# EAGLE library part CPCI_B19- (library con-cpci)
Compact PCI B 19 Source: www.erni.com
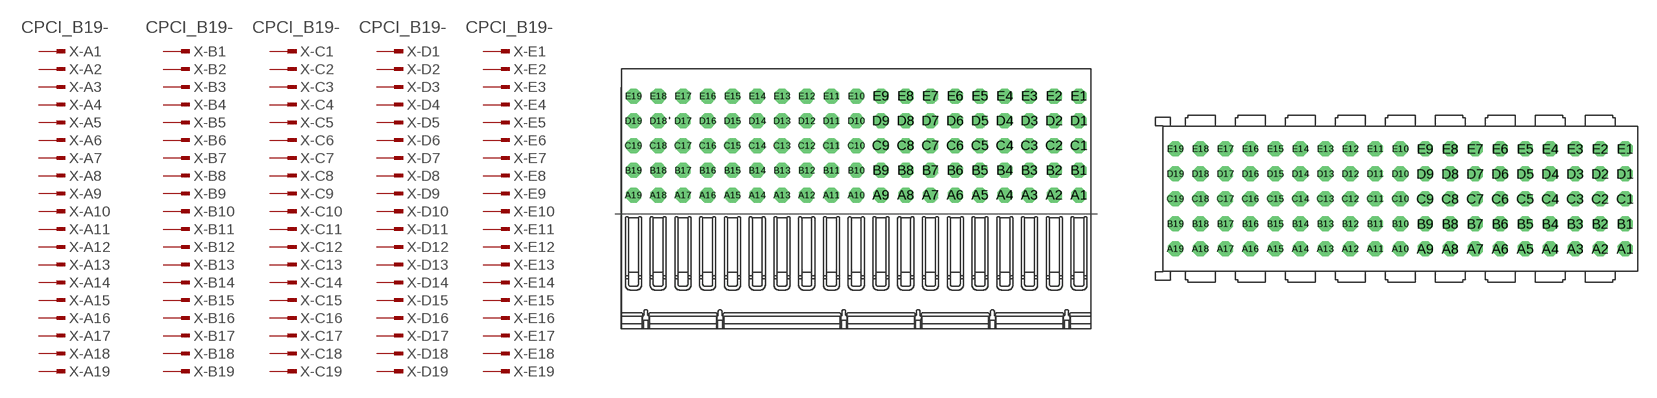
[diagram p3: symbol with the pads of 064784; footprints 064784, 114133]

Designator prefix X; gates -A1=PINV -B1=PINV -C1=PINV -D1=PINV -E1=PINV -A2=PIN -A3=PIN -A4=PIN -A5=PIN -A6=PIN -A7=PIN -A8=PIN -A9=PIN -A10=PIN -A11=PIN -A12=PIN -A13=PIN -A14=PIN -A15=PIN -A16=PIN -A17=PIN -A18=PIN -A19=PIN -B2=PIN -B3=PIN -B4=PIN -B5=PIN -B6=PIN -B7=PIN -B8=PIN -B9=PIN -B10=PIN -B11=PIN -B12=PIN -B13=PIN -B14=PIN -B15=PIN -B16=PIN -B17=PIN -B18=PIN -B19=PIN -C2=PIN -C3=PIN -C4=PIN -C5=PIN -C6=PIN -C7=PIN -C8=PIN -C9=PIN -C10=PIN -C11=PIN -C12=PIN -C13=PIN -C14=PIN -C15=PIN -C16=PIN -C17=PIN -C18=PIN -C19=PIN -D2=PIN -D3=PIN -D4=PIN -D5=PIN -D6=PIN -D7=PIN -D8=PIN -D9=PIN -D10=PIN -D11=PIN -D12=PIN -D13=PIN -D14=PIN -D15=PIN -D16=PIN -D17=PIN -D18=PIN -D19=PIN -E2=PIN -E3=PIN -E4=PIN -E5=PIN -E6=PIN -E7=PIN -E8=PIN -E9=PIN -E10=PIN -E11=PIN -E12=PIN -E13=PIN -E14=PIN -E15=PIN -E16=PIN -E17=PIN -E18=PIN -E19=PIN

## CPCI_B19-064784  [064784]
A1  -A1:1  in
A2  -A2:1  in
A3  -A3:1  in
A4  -A4:1  in
A5  -A5:1  in
A6  -A6:1  in
A7  -A7:1  in
A8  -A8:1  in
A9  -A9:1  in
A10  -A10:1  in
A11  -A11:1  in
A12  -A12:1  in
A13  -A13:1  in
A14  -A14:1  in
A15  -A15:1  in
A16  -A16:1  in
A17  -A17:1  in
A18  -A18:1  in
A19  -A19:1  in
B1  -B1:1  in
B2  -B2:1  in
B3  -B3:1  in
B4  -B4:1  in
B5  -B5:1  in
B6  -B6:1  in
B7  -B7:1  in
B8  -B8:1  in
B9  -B9:1  in
B10  -B10:1  in
B11  -B11:1  in
B12  -B12:1  in
B13  -B13:1  in
B14  -B14:1  in
B15  -B15:1  in
B16  -B16:1  in
B17  -B17:1  in
B18  -B18:1  in
B19  -B19:1  in
C1  -C1:1  in
C2  -C2:1  in
C3  -C3:1  in
C4  -C4:1  in
C5  -C5:1  in
C6  -C6:1  in
C7  -C7:1  in
C8  -C8:1  in
C9  -C9:1  in
C10  -C10:1  in
C11  -C11:1  in
C12  -C12:1  in
C13  -C13:1  in
C14  -C14:1  in
C15  -C15:1  in
C16  -C16:1  in
C17  -C17:1  in
C18  -C18:1  in
C19  -C19:1  in
D1  -D1:1  in
D2  -D2:1  in
D3  -D3:1  in
D4  -D4:1  in
D5  -D5:1  in
D6  -D6:1  in
D7  -D7:1  in
D8  -D8:1  in
D9  -D9:1  in
D10  -D10:1  in
D11  -D11:1  in
D12  -D12:1  in
D13  -D13:1  in
D14  -D14:1  in
D15  -D15:1  in
D16  -D16:1  in
D17  -D17:1  in
D18  -D18:1  in
D19  -D19:1  in
E1  -E1:1  in
E2  -E2:1  in
E3  -E3:1  in
E4  -E4:1  in
E5  -E5:1  in
E6  -E6:1  in
E7  -E7:1  in
E8  -E8:1  in
E9  -E9:1  in
E10  -E10:1  in
E11  -E11:1  in
E12  -E12:1  in
E13  -E13:1  in
E14  -E14:1  in
E15  -E15:1  in
E16  -E16:1  in
E17  -E17:1  in
E18  -E18:1  in
E19  -E19:1  in

## CPCI_B19-114133  [114133]
Pads as for 064784

## CPCI_B19-914794  [914794]
Pads as for 064784

## Footprint 064784 (pad centres in mm)
ERmet Federleiste B 19 / ERmet Female Type B 19 Source: http://www.erni.com/DB/PDF-Drawing/ERmet/064784.pdf
drill 0.7 pad 1.016 octagon: A1 18,1.5; A2 16,1.5; A3 14,1.5; A4 12,1.5; A5 10,1.5; A6 8,1.5; A7 6,1.5; A8 4,1.5; A9 2,1.5; A10 0,1.5; A11 -2,1.5; A12 -4,1.5; A13 -6,1.5; A14 -8,1.5; A15 -10,1.5; A16 -12,1.5; A17 -14,1.5; A18 -16,1.5; A19 -18,1.5; B1 18,3.5; B2 16,3.5; B3 14,3.5; B4 12,3.5; B5 10,3.5; B6 8,3.5; B7 6,3.5; B8 4,3.5; B9 2,3.5; B10 0,3.5; B11 -2,3.5; B12 -4,3.5; B13 -6,3.5; B14 -8,3.5; B15 -10,3.5; B16 -12,3.5; B17 -14,3.5; B18 -16,3.5; B19 -18,3.5; C1 18,5.5; C2 16,5.5; C3 14,5.5; C4 12,5.5; C5 10,5.5; C6 8,5.5; C7 6,5.5; C8 4,5.5; C9 2,5.5; C10 0,5.5; C11 -2,5.5; C12 -4,5.5; C13 -6,5.5; C14 -8,5.5; C15 -10,5.5; C16 -12,5.5; C17 -14,5.5; C18 -16,5.5; C19 -18,5.5; D1 18,7.5; D2 16,7.5; D3 14,7.5; D4 12,7.5; D5 10,7.5; D6 8,7.5; D7 6,7.5; D8 4,7.5; D9 2,7.5; D10 0,7.5; D11 -2,7.5; D12 -4,7.5; D13 -6,7.5; D14 -8,7.5; D15 -10,7.5; D16 -12,7.5; D17 -14,7.5; D18 -16,7.5; D19 -18,7.5; E1 18,9.5; E2 16,9.5; E3 14,9.5; E4 12,9.5; E5 10,9.5; E6 8,9.5; E7 6,9.5; E8 4,9.5; E9 2,9.5; E10 0,9.5; E11 -2,9.5; E12 -4,9.5; E13 -6,9.5; E14 -8,9.5; E15 -10,9.5; E16 -12,9.5; E17 -14,9.5; E18 -16,9.5; E19 -18,9.5

## Footprint 114133 (pad centres in mm)
ERmet-FS Federleiste B19 / ERmet-Female Straight Type B19 Source: http://www.erni.com/DB/PDF-Drawing/ERmet/114133.pdf
drill 0.7 pad 1.016 octagon: A1 18,-5; A2 16,-5; A3 14,-5; A4 12,-5; A5 10,-5; A6 8,-5; A7 6,-5; A8 4,-5; A9 2,-5; A10 0,-5; A11 -2,-5; A12 -4,-5; A13 -6,-5; A14 -8,-5; A15 -10,-5; A16 -12,-5; A17 -14,-5; A18 -16,-5; A19 -18,-5; B1 18,-3; B2 16,-3; B3 14,-3; B4 12,-3; B5 10,-3; B6 8,-3; B7 6,-3; B8 4,-3; B9 2,-3; B10 0,-3; B11 -2,-3; B12 -4,-3; B13 -6,-3; B14 -8,-3; B15 -10,-3; B16 -12,-3; B17 -14,-3; B18 -16,-3; B19 -18,-3; C1 18,-1; C2 16,-1; C3 14,-1; C4 12,-1; C5 10,-1; C6 8,-1; C7 6,-1; C8 4,-1; C9 2,-1; C10 0,-1; C11 -2,-1; C12 -4,-1; C13 -6,-1; C14 -8,-1; C15 -10,-1; C16 -12,-1; C17 -14,-1; C18 -16,-1; C19 -18,-1; D1 18,1; D2 16,1; D3 14,1; D4 12,1; D5 10,1; D6 8,1; D7 6,1; D8 4,1; D9 2,1; D10 0,1; D11 -2,1; D12 -4,1; D13 -6,1; D14 -8,1; D15 -10,1; D16 -12,1; D17 -14,1; D18 -16,1; D19 -18,1; E1 18,3; E2 16,3; E3 14,3; E4 12,3; E5 10,3; E6 8,3; E7 6,3; E8 4,3; E9 2,3; E10 0,3; E11 -2,3; E12 -4,3; E13 -6,3; E14 -8,3; E15 -10,3; E16 -12,3; E17 -14,3; E18 -16,3; E19 -18,3

## Footprint 914794 (pad centres in mm)
ERmet Federleiste B 19 / ERmet Female Type B 19 Source: http://www.erni.com/DB/PDF-Drawing/ERmet/914794i.pdf
drill 0.7 pad 1.016 octagon: A1 2.5,-64; A2 0.5,-64; A3 -1.5,-64; A4 -3.5,-64; A5 -5.5,-64; A6 -7.5,-64; A7 -9.5,-64; A8 -11.5,-64; A9 -13.5,-64; A10 -15.5,-64; A11 -17.5,-64; A12 -19.5,-64; A13 -21.5,-64; A14 -23.5,-64; A15 -25.5,-64; A16 -27.5,-64; A17 -29.5,-64; A18 -31.5,-64; A19 -33.5,-64; B1 2.5,-62; B2 0.5,-62; B3 -1.5,-62; B4 -3.5,-62; B5 -5.5,-62; B6 -7.5,-62; B7 -9.5,-62; B8 -11.5,-62; B9 -13.5,-62; B10 -15.5,-62; B11 -17.5,-62; B12 -19.5,-62; B13 -21.5,-62; B14 -23.5,-62; B15 -25.5,-62; B16 -27.5,-62; B17 -29.5,-62; B18 -31.5,-62; B19 -33.5,-62; C1 2.5,-60; C2 0.5,-60; C3 -1.5,-60; C4 -3.5,-60; C5 -5.5,-60; C6 -7.5,-60; C7 -9.5,-60; C8 -11.5,-60; C9 -13.5,-60; C10 -15.5,-60; C11 -17.5,-60; C12 -19.5,-60; C13 -21.5,-60; C14 -23.5,-60; C15 -25.5,-60; C16 -27.5,-60; C17 -29.5,-60; C18 -31.5,-60; C19 -33.5,-60; D1 2.5,-58; D2 0.5,-58; D3 -1.5,-58; D4 -3.5,-58; D5 -5.5,-58; D6 -7.5,-58; D7 -9.5,-58; D8 -11.5,-58; D9 -13.5,-58; D10 -15.5,-58; D11 -17.5,-58; D12 -19.5,-58; D13 -21.5,-58; D14 -23.5,-58; D15 -25.5,-58; D16 -27.5,-58; D17 -29.5,-58; D18 -31.5,-58; D19 -33.5,-58; E1 2.5,-56; E2 0.5,-56; E3 -1.5,-56; E4 -3.5,-56; E5 -5.5,-56; E6 -7.5,-56; E7 -9.5,-56; E8 -11.5,-56; E9 -13.5,-56; E10 -15.5,-56; E11 -17.5,-56; E12 -19.5,-56; E13 -21.5,-56; E14 -23.5,-56; E15 -25.5,-56; E16 -27.5,-56; E17 -29.5,-56; E18 -31.5,-56; E19 -33.5,-56